# EAGLE library part USB-A (library Tinkercad)
USB(2.0) Type-A, RCPT, 4POS, THT-VERT 1734366 Datasheet <https://www.te.com/commerce/DocumentDelivery/DDEController?Action=showdoc&DocId=Data+Sheet%7F7-1773442-0%7F0306%7Fpdf%7FEnglish%7FENG_DS_7-1773442-0_0306.pdf%7F1734366-1> 0480371000 Datasheet <https://www.te.com/commerce/DocumentDelivery/DDEController?Action=showdoc&DocId=Data+Sheet%7F7-1773442-0%7F0306%7Fpdf%7FEnglish%7FENG_DS_7-1773442-0_0306.pdf%7F1734366-1>
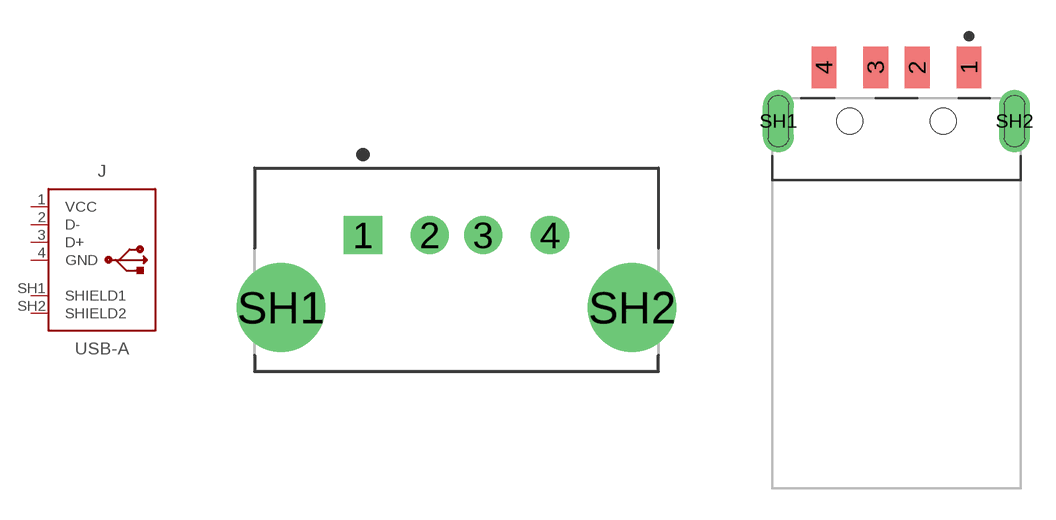
[diagram p26: symbol with the pads of 1734366; footprints 1734366, 0480371000]

Designator prefix J

## USB-A_V (CATEGORY: Connector; CONTACTS: 4; CURRENT_RATING: 1A; DESCRIPTION: CONN RCPT USB2.0 TYPEA 4POS VERT; GENDER: Receptacle; MANUFACTURER: TE Connectivity; MOUNT_TYPE: Vertical; MPN: 1734366-1; OPERATING_TEMP: -40° to +80°C; PART_STATUS: Active; ROHS_COMPLIANT: RoHS Compliant; SERIES: -; SUB-CATEGORY: USB; TYPE: USB-A; VOLTAGE_RATING: 30VAC(rms))  [1734366]
1  VCC
2  D-
3  D+
4  GND
SH1  SHIELD1  sup
SH2  SHIELD2  sup

## USB-A_RA  [0480371000]
Pads as for 1734366

## Footprint 1734366 (pad centres in mm)
drill 0.92 square: 1 0,0
drill 0.92: 2 2.5,0; 3 4.5,0; 4 7,0
drill 2.3: SH1 -3.07,-2.71; SH2 10.07,-2.71

## Footprint 0480371000 (pad centres in mm)
smd 1.2 x 2: 1 3.5,2.6; 2 1,2.6; 3 -1,2.6; 4 -3.5,2.6
drill 1 long: SH1 -5.7,0; SH2 5.7,0
hole 1.25 at -2.25,0
hole 1.25 at 2.25,0